# Altium footprint library MTJ88ARX1FSMLG.PcbLib: 1 footprints
Each footprint in its own frame and in the unit in brackets; x right, y up, seen from the top. Pads: shape width x height; smd on the part's side, far side on the other; paste and mask are expansions set on the pad; w line width, h text height; cw(c..) or ccw(c..) is an arc to the next point about the centre after c.
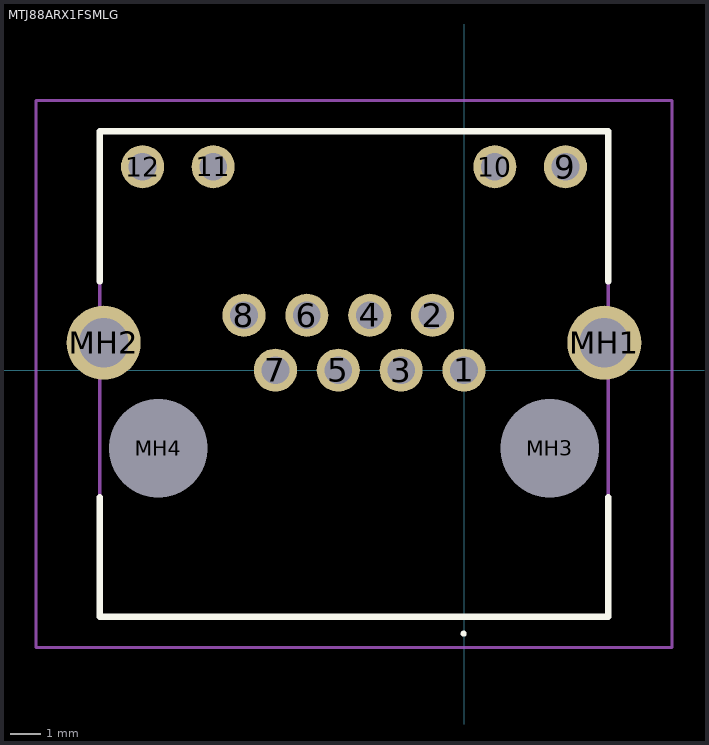
[diagram p0: the footprint, top view; thin cyan lines are the x and y axes]

## MTJ88ARX1FSMLG [mm]
pads (16):
  round 1.4 hole 0.9: 1(0,0) 2(-1.02,1.78) 3(-2.04,0) 4(-3.06,1.78) 5(-4.08,0) 6(-5.1,1.78) 7(-6.12,0) 8(-7.14,1.78) 9(3.29,6.6) 10(1,6.6) 11(-8.14,6.6) 12(-10.43,6.6)
  round 2.4 hole 1.6: MH1(4.555,0.89) MH2(-11.695,0.89)
  round 1.6 hole 3.2 unplated: MH3(2.78,-2.54) MH4(-9.92,-2.54)
Top Overlay:
  lines w0.1: -0.013,-8.6 cw(c-0.013,-8.55) -0.013,-8.5 ; -0.013,-8.6 -0.013,-8.6 ; -0.013,-8.6 ccw(c-0.013,-8.55) -0.013,-8.5 ; -0.013,-8.5 -0.013,-8.5
  lines w0.2: -11.82,-4.125 -11.82,-8 4.68,-8 4.68,-4.125 ; -11.82,2.875 -11.82,7.75 4.68,7.75 4.68,2.875
Mechanical 15:
  lines w0.1: -11.82,-8 4.68,-8 4.68,7.75 -11.82,7.75 -11.82,-8
Mechanical 20:
  lines w0.1: -13.895,-9 6.755,-9 6.755,8.75 -13.895,8.75 -13.895,-9